# EAGLE library part 204B (library displaytech)
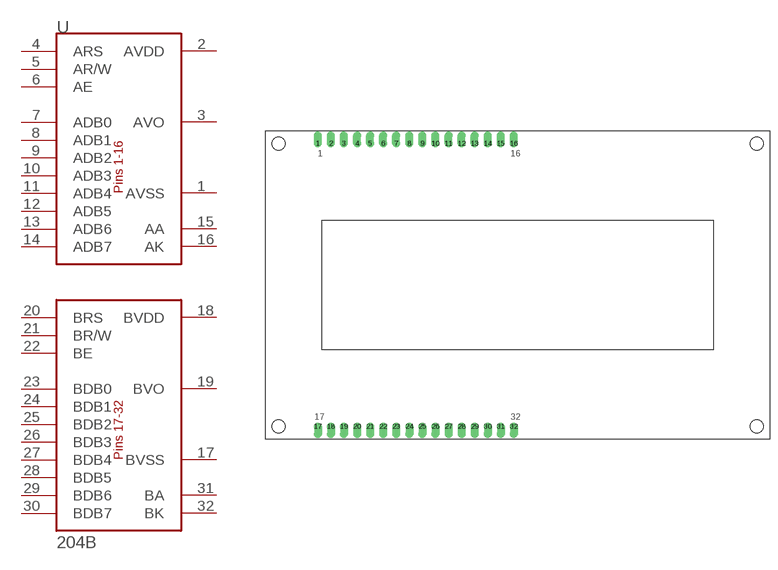
[diagram p11: symbol with the pads of 204B; footprint 204B]

Designator prefix -

## 204B  [204B]
1  AVSS  pwr
2  AVDD  pwr
3  AVO  in
4  ARS
5  AR/W
6  AE
7  ADB0
8  ADB1
9  ADB2
10  ADB3
11  ADB4
12  ADB5
13  ADB6
14  ADB7
15  AA  pwr
16  AK  pwr
17  BVSS  pwr
18  BVDD  pwr
19  BVO  in
20  BRS
21  BR/W
22  BE
23  BDB0
24  BDB1
25  BDB2
26  BDB3
27  BDB4
28  BDB5
29  BDB6
30  BDB7
31  BA  pwr
32  BK  pwr

## Footprint 204B (pad centres in mm)
drill 1.016 offset: 1 0,55; 2 2.54,55; 3 5.08,55; 4 7.62,55; 5 10.16,55; 6 12.7,55; 7 15.24,55; 8 17.78,55; 9 20.32,55; 10 22.86,55; 11 25.4,55; 12 27.94,55; 13 30.48,55; 14 33.02,55; 15 35.56,55; 16 38.1,55; 17 0,0; 18 2.54,0; 19 5.08,0; 20 7.62,0; 21 10.16,0; 22 12.7,0; 23 15.24,0; 24 17.78,0; 25 20.32,0; 26 22.86,0; 27 25.4,0; 28 27.94,0; 29 30.48,0; 30 33.02,0; 31 35.56,0; 32 38.1,0